# Altium footprint library MODULE_KEYPAD.PcbLib: 4 footprints
Each footprint in its own frame and in the unit in brackets; x right, y up, seen from the top. Pads: shape width x height; smd on the part's side, far side on the other; paste and mask are expansions set on the pad; w line width, h text height; cw(c..) or ccw(c..) is an arc to the next point about the centre after c.
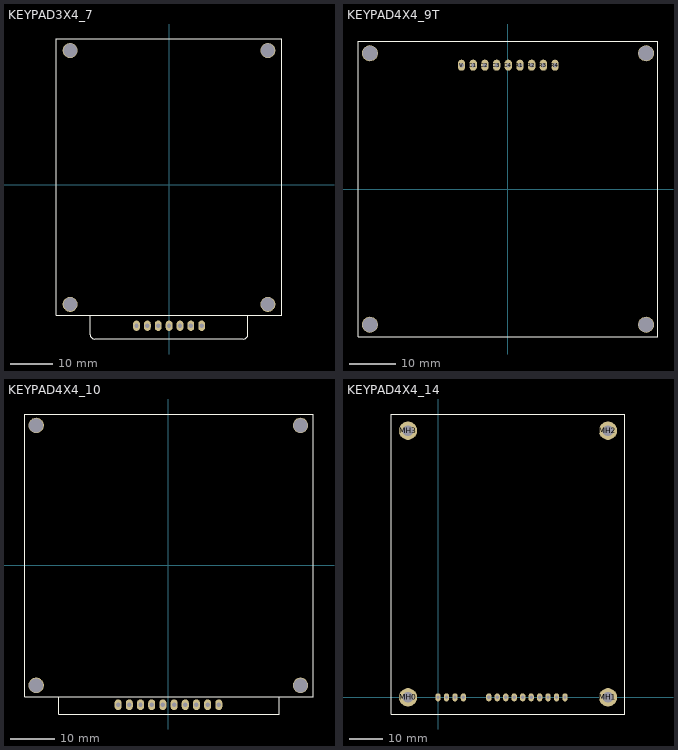
[diagram p0: the footprints below, top view; thin cyan lines are the x and y axes]

## KEYPAD3X4_7 [mm] "Matrix Keyboard 4x4"
pads (11):
  oval 1.6x2.4 hole 1: C1(-7.6,-32.9) C2(-5.06,-32.9) C3(-2.52,-32.9) R1(0.02,-32.9) R2(2.56,-32.9) R3(5.1,-32.9) R4(7.64,-32.9)
  round 3.5 / inner round 3.5 / far side round 5.5 hole 3.2: ""(-23.1,-27.9) ""(-23.1,31.4) ""(23.1,-27.9) ""(23.1,31.4)
Top Overlay:
  lines w0.2: -18.4,-30.4 -18.4,-35 ccw(c-17.4,-35) -17.4,-36 17.4,-36 ccw(c17.4,-35) 18.4,-35 18.4,-30.4 ; -26.3,-30.4 -26.3,34.1 26.3,34.1 26.3,-30.4 -26.3,-30.4
3D body "User Library-Keypad 3x4.step": height 10.8, standoff -12, extent -26.175,-35.8 26.176,33.95

## KEYPAD4X4_9T [mm] "Matrix Keyboard 4x4"
pads (13):
  oval 1.6x2.4 hole 1: C1(-7.56,26.9) C2(-5.02,26.9) C3(-2.48,26.9) C4(0.06,26.9) R1(2.6,26.9) R2(5.14,26.9) R3(7.68,26.9) R4(10.22,26.9) V(-10.1,26.9)
  round 3.5 / inner round 3.5 / far side round 5.5 hole 3.2: ""(-30,-29.5) ""(-30,29.5) ""(30,-29.5) ""(30,29.5)
Top Overlay:
  lines w0.2: -32.6,-32.1 32.6,-32.1 32.6,32.1 -32.6,32.1 -32.6,-32.1
3D body "43128.stp": height 13.17, standoff -7.7, extent -32.5,-32 32.5,32

## KEYPAD4X4_10 [mm] "Matrix Keyboard 4x4"
pads (14):
  oval 1.6x2.4 hole 1: C1(-8.86,-31.7) C2(-6.32,-31.7) C3(-3.78,-31.7) C4(-1.24,-31.7) R1(1.3,-31.7) R2(3.84,-31.7) R3(6.38,-31.7) R4(8.92,-31.7) ""(-11.4,-31.7) ""(11.46,-31.7)
  round 3.5 / inner round 3.5 / far side round 5.5 hole 3.2: ""(-30,-27.3) ""(-30,31.7) ""(30,-27.3) ""(30,31.7)
Top Overlay:
  lines w0.2: -24.9,-29.9 -24.9,-33.8 25.2,-33.8 25.2,-29.9 ; -32.6,-29.9 32.9,-29.9 32.9,34.3 -32.6,34.3 -32.6,-29.9
3D body "User Library-Keypad 4x4.step": height 12.08, standoff 2.68, extent -32.539,-33.6 32.739,34.218

## KEYPAD4X4_14 [mm] "Matrix Keyboard 4x4"
pads (18):
  oval 1.6x2.4 hole 1: C1(17.78,0) C2(20.32,0) C3(22.86,0) C4(25.4,0) COM(38.1,0) L1(27.94,0) L2(30.48,0) L3(33.02,0) L4(35.56,0) R1(0,0) R2(2.54,0) R3(5.08,0) R4(7.62,0) V(15.24,0)
  round 5.5 hole 3.2: MH0(-9,0) MH1(51,0) MH2(51,80) MH3(-9,80)
Top Overlay:
  lines w0.2: -14,-5 -14,85 56,85 56,-5 -14,-5
3D body "header04-15mm.STEP": height 18.03, standoff -2.54, extent -1.27,-1.27 8.89,1.27
3D body "header10-15mm.STEP": height 18.03, standoff -2.54, extent 13.97,-1.27 39.37,1.27
3D body "Spacer.STEP": height 15, standoff -5, extent -11.858,77.525 -6.142,82.475
3D body "Spacer.STEP": height 15, standoff -5, extent -11.858,-2.475 -6.142,2.475
3D body "Spacer.STEP": height 15, standoff -5, extent 48.142,-2.475 53.858,2.475
3D body "Spacer.STEP": height 15, standoff -5, extent 48.142,77.525 53.858,82.475
3D body "Keyboard.STEP": height 22.22, standoff 15, extent -14,-5 56,85